# Altium footprint library Footprints.PcbLib: 146 footprints (part 9 of 10)
Each footprint in its own frame and in the unit in brackets; x right, y up, seen from the top. Pads: shape width x height; smd on the part's side, far side on the other; paste and mask are expansions set on the pad; w line width, h text height; cw(c..) or ccw(c..) is an arc to the next point about the centre after c.
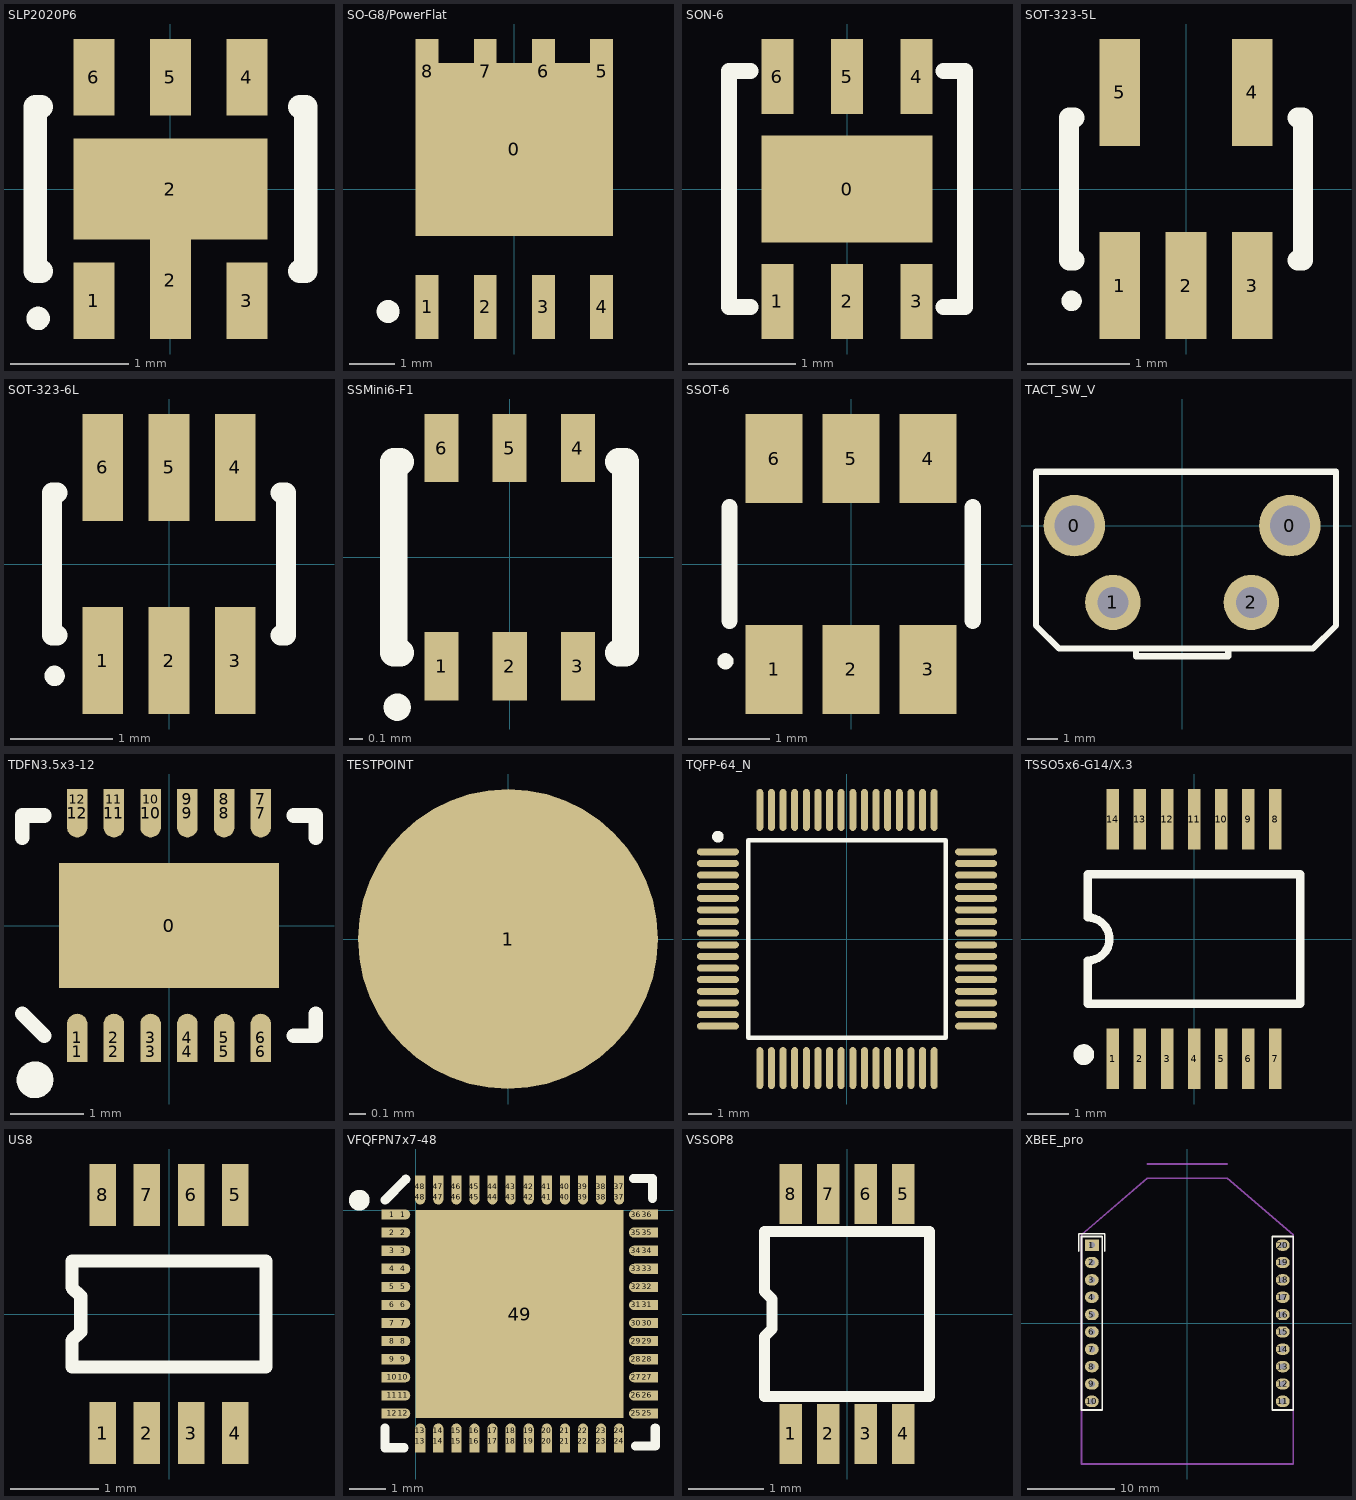
[diagram p8: the footprints below, top view; thin cyan lines are the x and y axes]

## SLP2020P6 [mm]
height 0.6
pads (7):
  rect 0.35x0.65 smd: 1(-0.65,-0.95) 3(0.65,-0.95) 4(0.65,0.95) 5(0,0.95) 6(-0.65,0.95)
  rect 0.35x1 smd: 2(0,-0.775)
  rect 1.65x0.86 smd: 2(0,0)
Top Overlay:
  circle w0.1: c-1.125,-1.1 r0.05
  lines w0.2: -1.1,-0.7 -1.15,-0.7 -1.15,0.7 -1.1,0.7 ; 1.1,-0.7 1.15,-0.7 1.15,0.7 1.1,0.7

## SO-G8/PowerFlat [mm]
pads (9):
  rect 4.31x3.78 smd: 0(0,0.865)
  rect 0.5x1.4 smd: 1(-1.905,-2.575) 2(-0.635,-2.575) 3(0.635,-2.575) 4(1.905,-2.575) 5(1.905,2.575) 6(0.635,2.575) 7(-0.635,2.575) 8(-1.905,2.575)
Top Overlay:
  circle w0.25: c-2.755,-2.675 r0.125

## SON-6 [mm]
pads (7):
  rect 1.6x1 smd: 0(0,0)
  rect 0.3x0.7 smd: 1(-0.65,-1.05) 2(0,-1.05) 3(0.65,-1.05) 4(0.65,1.05) 5(0,1.05) 6(-0.65,1.05)
Top Overlay:
  lines w0.15: -0.9,-1.1 -1.1,-1.1 -1.1,1.1 -0.9,1.1 ; 0.9,-1.1 1.1,-1.1 1.1,1.1 0.9,1.1

## SOT-323-5L [mm] "SOT-323-5L"
height 1.1
pads (5):
  rect 0.4x1.05 smd: 1(-0.65,-0.95) 2(0,-0.95) 3(0.65,-0.95) 4(0.65,0.95) 5(-0.65,0.95)
Top Overlay:
  circle w0.1: c-1.125,-1.1 r0.05
  lines w0.2: -1.1,-0.7 -1.15,-0.7 -1.15,0.7 -1.1,0.7 ; 1.1,-0.7 1.15,-0.7 1.15,0.7 1.1,0.7

## SOT-323-6L [mm] "SOT-323-6L"
height 1.1
pads (6):
  rect 0.4x1.05 smd: 1(-0.65,-0.95) 2(0,-0.95) 3(0.65,-0.95) 4(0.65,0.95) 5(0,0.95) 6(-0.65,0.95)
Top Overlay:
  circle w0.1: c-1.125,-1.1 r0.05
  lines w0.2: -1.1,-0.7 -1.15,-0.7 -1.15,0.7 -1.1,0.7 ; 1.1,-0.7 1.15,-0.7 1.15,0.7 1.1,0.7

## SSMini6-F1 [mm] "SMD Dual Transistor 0.5 mm pitch"
height 1.1
pads (6):
  rect 0.25x0.5 smd: 1(-0.5,-0.8) 2(0,-0.8) 3(0.5,-0.8) 4(0.5,0.8) 5(0,0.8) 6(-0.5,0.8)
Top Overlay:
  circle w0.1: c-0.825,-1.1 r0.05
  lines w0.2: -0.8,-0.7 -0.85,-0.7 -0.85,0.7 -0.8,0.7 ; 0.8,-0.7 0.85,-0.7 0.85,0.7 0.8,0.7

## SSOT-6 [mm] "0.95mm pitch"
height 1.1
pads (6):
  rect 0.7x1.1 smd: 1(-0.95,-1.3) 2(0,-1.3) 3(0.95,-1.3) 4(0.95,1.3) 5(0,1.3) 6(-0.95,1.3)
Top Overlay:
  circle w0.1: c-1.55,-1.2 r0.05
  lines w0.2: -1.5,-0.7 -1.5,0.7 ; 1.5,-0.7 1.5,0.7

## TACT_SW_V [mm] "Vertical TACT switch"
pads (4):
  round 2 hole 1.3: 0(-3.5,0) 0(3.5,0)
  round 1.8 hole 1: 1(-2.25,-2.5) 2(2.25,-2.5)
Top Overlay:
  lines w0.2: -1.5,-4 -1.5,-4.25 1.5,-4.25 1.5,-4 ; -4.75,-3.25 -4.75,1.75 5,1.75 5,-3.25 4.25,-4 -4,-4 -4.75,-3.25

## TDFN3.5x3-12 [mm] "12 Terminals; Body 3.5 x 3 mm; Pitch 0.5 mm"
height 1
pads (25):
  rect 3x1.7 smd: 0(0,0)
  rect 0.28x0.28 smd: 1(-1.25,-1.72) 2(-0.75,-1.72) 3(-0.25,-1.72) 4(0.25,-1.72) 5(0.75,-1.72) 6(1.25,-1.72) 7(1.25,1.72) 8(0.75,1.72) 9(0.25,1.72) 10(-0.25,1.72) 11(-0.75,1.72) 12(-1.25,1.72)
  oval 0.28x0.66 smd: 1(-1.25,-1.53) 2(-0.75,-1.53) 3(-0.25,-1.53) 4(0.25,-1.53) 5(0.75,-1.53) 6(1.25,-1.53) 7(1.25,1.53) 8(0.75,1.53) 9(0.25,1.53) 10(-0.25,1.53) 11(-0.75,1.53) 12(-1.25,1.53)
Top Overlay:
  circle w0.25: c-1.825,-2.1 r0.125
  lines w0.2: -2,-1.2 -1.7,-1.5 ; -2,1.2 -2,1.5 -1.7,1.5 ; 1.7,-1.5 2,-1.5 2,-1.2 ; 1.7,1.5 2,1.5 2,1.2 ; -1.7,-1.5 -1.7,-1.5

## TESTPOINT [mm] "Testpoint"
pads (1):
  round 1.8 smd: 1(0,0)

## TQFP-64_N [mm] "Thin QFP, 64-Leads, Body 10x10mm, Pitch 0.5mm, IPC Medium Density"
height 1.2
pads (64):
  oval 1.8x0.3 smd: 1(-5.55,3.75) 2(-5.55,3.25) 3(-5.55,2.75) 4(-5.55,2.25) 5(-5.55,1.75) 6(-5.55,1.25) 7(-5.55,0.75) 8(-5.55,0.25) 9(-5.55,-0.25) 10(-5.55,-0.75) 11(-5.55,-1.25) 12(-5.55,-1.75) 13(-5.55,-2.25) 14(-5.55,-2.75) 15(-5.55,-3.25) 16(-5.55,-3.75) 33(5.55,-3.75) 34(5.55,-3.25) 35(5.55,-2.75) 36(5.55,-2.25) 37(5.55,-1.75) 38(5.55,-1.25) 39(5.55,-0.75) 40(5.55,-0.25) 41(5.55,0.25) 42(5.55,0.75) 43(5.55,1.25) 44(5.55,1.75) 45(5.55,2.25) 46(5.55,2.75) 47(5.55,3.25) 48(5.55,3.75)
  oval 0.3x1.8 smd: 17(-3.75,-5.55) 18(-3.25,-5.55) 19(-2.75,-5.55) 20(-2.25,-5.55) 21(-1.75,-5.55) 22(-1.25,-5.55) 23(-0.75,-5.55) 24(-0.25,-5.55) 25(0.25,-5.55) 26(0.75,-5.55) 27(1.25,-5.55) 28(1.75,-5.55) 29(2.25,-5.55) 30(2.75,-5.55) 31(3.25,-5.55) 32(3.75,-5.55) 49(3.75,5.55) 50(3.25,5.55) 51(2.75,5.55) 52(2.25,5.55) 53(1.75,5.55) 54(1.25,5.55) 55(0.75,5.55) 56(0.25,5.55) 57(-0.25,5.55) 58(-0.75,5.55) 59(-1.25,5.55) 60(-1.75,5.55) 61(-2.25,5.55) 62(-2.75,5.55) 63(-3.25,5.55) 64(-3.75,5.55)
Top Overlay:
  circle w0.25: c-5.55,4.4 r0.125
  lines w0.2: -4.25,-4.25 -4.25,4.25 4.25,4.25 4.25,-4.25 -4.25,-4.25

## TSSO5x6-G14/X.3 [mm] "Shrink Small Outline; 14 Leads; Body Width 4.4 mm; Pitch 0.65 mm"
height 1.1
pads (14):
  rect 0.3x1.45 smd: 1(-1.95,-2.875) 2(-1.3,-2.875) 3(-0.65,-2.875) 4(0,-2.875) 5(0.65,-2.875) 6(1.3,-2.875) 7(1.95,-2.875) 8(1.95,2.875) 9(1.3,2.875) 10(0.65,2.875) 11(0,2.875) 12(-0.65,2.875) 13(-1.3,2.875) 14(-1.95,2.875)
Top Overlay:
  circle w0.25: c-2.65,-2.775 r0.125
  lines w0.2: -2.55,-1.55 -2.55,-0.517 ccw(c-2.55,0) -2.55,0.517 -2.55,1.55 2.55,1.55 2.55,-1.55 -2.55,-1.55

## US8 [mm] "8 leads, 0.5mm pitch"
height 1.1
pads (8):
  rect 0.3x0.7 smd: 1(-0.75,-1.35) 2(-0.25,-1.35) 3(0.25,-1.35) 4(0.75,-1.35) 5(0.75,1.35) 6(0.25,1.35) 7(-0.25,1.35) 8(-0.75,1.35)
Top Overlay:
  lines w0.15: -1.1,-0.6 1.1,-0.6 1.1,0.6 -1.1,0.6 -1.1,0.3 -1,0.2 -1,-0.2 -1.1,-0.3 -1.1,-0.6

## VFQFPN7x7-48 [mm] "Very thin Quad Flat Package No Lead"
height 0.85
pads (97):
  rect 0.6x0.28 smd: 1(-0.65,-0.125) 2(-0.65,-0.625) 3(-0.65,-1.125) 4(-0.65,-1.625) 5(-0.65,-2.125) 6(-0.65,-2.625) 7(-0.65,-3.125) 8(-0.65,-3.625) 9(-0.65,-4.125) 10(-0.65,-4.625) 11(-0.65,-5.125) 12(-0.65,-5.625) 25(6.4,-5.625) 26(6.4,-5.125) 27(6.4,-4.625) 28(6.4,-4.125) 29(6.4,-3.625) 30(6.4,-3.125) 31(6.4,-2.625) 32(6.4,-2.125) 33(6.4,-1.625) 34(6.4,-1.125) 35(6.4,-0.625) 36(6.4,-0.125)
  oval 0.4x0.28 smd: 1(-0.35,-0.125) 2(-0.35,-0.625) 3(-0.35,-1.125) 4(-0.35,-1.625) 5(-0.35,-2.125) 6(-0.35,-2.625) 7(-0.35,-3.125) 8(-0.35,-3.625) 9(-0.35,-4.125) 10(-0.35,-4.625) 11(-0.35,-5.125) 12(-0.35,-5.625) 25(6.1,-5.625) 26(6.1,-5.125) 27(6.1,-4.625) 28(6.1,-4.125) 29(6.1,-3.625) 30(6.1,-3.125) 31(6.1,-2.625) 32(6.1,-2.125) 33(6.1,-1.625) 34(6.1,-1.125) 35(6.1,-0.625) 36(6.1,-0.125)
  rect 0.28x0.6 smd: 13(0.125,-6.4) 14(0.625,-6.4) 15(1.125,-6.4) 16(1.625,-6.4) 17(2.125,-6.4) 18(2.625,-6.4) 19(3.125,-6.4) 20(3.625,-6.4) 21(4.125,-6.4) 22(4.625,-6.4) 23(5.125,-6.4) 24(5.625,-6.4) 37(5.625,0.65) 38(5.125,0.65) 39(4.625,0.65) 40(4.125,0.65) 41(3.625,0.65) 42(3.125,0.65) 43(2.625,0.65) 44(2.125,0.65) 45(1.625,0.65) 46(1.125,0.65) 47(0.625,0.65) 48(0.125,0.65)
  oval 0.28x0.4 smd: 13(0.125,-6.1) 14(0.625,-6.1) 15(1.125,-6.1) 16(1.625,-6.1) 17(2.125,-6.1) 18(2.625,-6.1) 19(3.125,-6.1) 20(3.625,-6.1) 21(4.125,-6.1) 22(4.625,-6.1) 23(5.125,-6.1) 24(5.625,-6.1) 37(5.625,0.35) 38(5.125,0.35) 39(4.625,0.35) 40(4.125,0.35) 41(3.625,0.35) 42(3.125,0.35) 43(2.625,0.35) 44(2.125,0.35) 45(1.625,0.35) 46(1.125,0.35) 47(0.625,0.35) 48(0.125,0.35)
  rect 5.75x5.75 smd: 49(2.875,-2.875)
Top Overlay:
  circle w0.5: c-1.56,0.275 r0.035
  lines w0.254: -0.85,-6.025 -0.85,-6.575 -0.325,-6.575 ; -0.85,0.275 -0.275,0.85 ; 6.025,0.875 6.55,0.875 6.55,0.325 ; 6.075,-6.525 6.625,-6.525 6.625,-6.025

## VSSOP8 [mm] "0.5mm pitch"
pads (8):
  rect 0.305x0.8 smd: 1(-0.75,-1.6) 2(-0.25,-1.6) 3(0.25,-1.6) 4(0.75,-1.6) 5(0.75,1.6) 6(0.25,1.6) 7(-0.25,1.6) 8(-0.75,1.6)
Top Overlay:
  lines w0.15: -1.1,-1.1 1.1,-1.1 1.1,1.1 -1.1,1.1 -1.1,0.3 -1,0.2 -1,-0.2 -1.1,-0.3 -1.1,-1.1

## XBEE_pro [mm]
height 4.3
pads (20):
  rect 1.6x1.3 hole 0.7: 1(-11,9)
  oval 1.6x1.3 hole 0.7: 2(-11,7) 3(-11,5) 4(-11,3) 5(-11,1) 6(-11,-1) 7(-11,-3) 8(-11,-5) 9(-11,-7) 10(-11,-9) 11(11,-9) 12(11,-7) 13(11,-5) 14(11,-3) 15(11,-1) 16(11,1) 17(11,3) 18(11,5) 19(11,7) 20(11,9)
Top Overlay:
  lines w0.2: -12.5,8.3 -12.5,10.3 -9.5,10.3 -9.5,8.3 ; -12.2,-10 -12.2,10 -9.8,10 -9.8,-10 -12.2,-10 ; 9.8,-10 9.8,10 12.2,10 12.2,-10 9.8,-10
Mechanical 1:
  lines w0.2: -4.6,18.35 4.6,18.35 ; -12.2,-16.22 12.2,-16.22 12.2,10.19 4.6,16.7 -4.6,16.7 -12.2,10.19 -12.2,-16.22